# Altium footprint library Texas_Instruments.PcbLib: 113 footprints (part 5 of 8)
Each footprint in its own frame and in the unit in brackets; x right, y up, seen from the top. Pads: shape width x height; smd on the part's side, far side on the other; paste and mask are expansions set on the pad; w line width, h text height; cw(c..) or ccw(c..) is an arc to the next point about the centre after c.
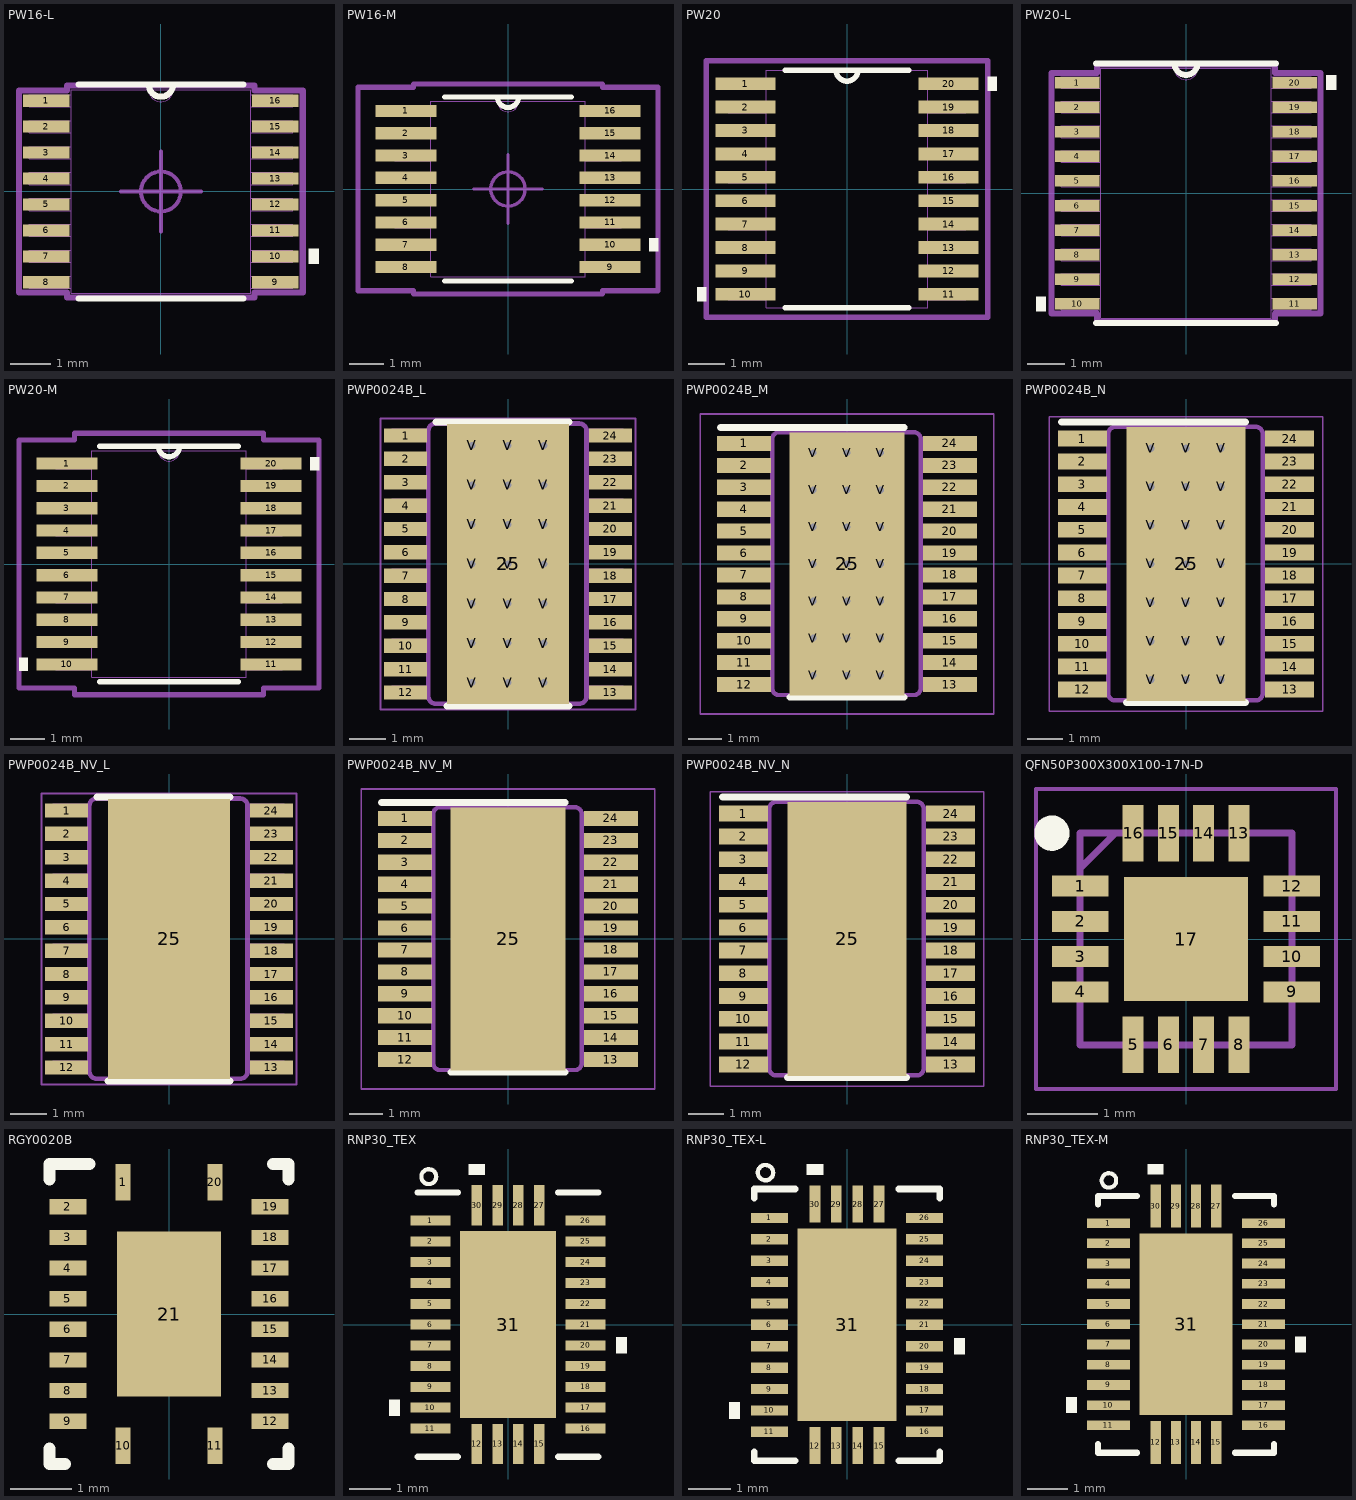
[diagram p4: the footprints below, top view; thin cyan lines are the x and y axes]

## PW16-L [mil]
pads (16):
  rect 46x12 smd: 1(-113,89.57) 2(-113,63.98) 3(-113,38.39) 4(-113,12.8) 5(-113,-12.8) 6(-113,-38.39) 7(-113,-63.98) 8(-113,-89.57) 9(113,-89.57) 10(113,-63.98) 11(113,-38.39) 12(113,-12.8) 13(113,12.8) 14(113,38.39) 15(113,63.98) 16(113,89.57)
Top Overlay:
  region: 146,-56.48 156,-56.48 156,-71.48 146,-71.48
  lines w6: -81.46,-105.5 81.46,-105.5 ; -81.46,105.5 81.46,105.5 ; -12,105.5 ccw(c0,105.5) 12,105.5
Mechanical 13:
  lines w0: -12,100.5 ccw(c0,100.5) 12,100.5
  lines w1: -130,-95.57 -88.5,-95.57 -88.5,-83.57 -130,-83.57 -130,-95.57 ; -130,-69.98 -88.5,-69.98 -88.5,-57.98 -130,-57.98 -130,-69.98 ; -130,-44.39 -88.5,-44.39 -88.5,-32.39 -130,-32.39 -130,-44.39 ; -130,-18.8 -88.5,-18.8 -88.5,-6.8 -130,-6.8 -130,-18.8 ; -130,6.8 -88.5,6.8 -88.5,18.8 -130,18.8 -130,6.8 ; -130,32.39 -88.5,32.39 -88.5,44.39 -130,44.39 -130,32.39 ; -130,57.98 -88.5,57.98 -88.5,69.98 -130,69.98 -130,57.98 ; -130,83.57 -88.5,83.57 -88.5,95.57 -130,95.57 -130,83.57 ; -88.5,-100.5 -88.5,100.5 88.5,100.5 88.5,-100.5 -88.5,-100.5 ; 88.5,-95.57 130,-95.57 130,-83.57 88.5,-83.57 88.5,-95.57 ; 88.5,-69.98 130,-69.98 130,-57.98 88.5,-57.98 88.5,-69.98 ; 88.5,-44.39 130,-44.39 130,-32.39 88.5,-32.39 88.5,-44.39 ; 88.5,-18.8 130,-18.8 130,-6.8 88.5,-6.8 88.5,-18.8 ; 88.5,6.8 130,6.8 130,18.8 88.5,18.8 88.5,6.8 ; 88.5,32.39 130,32.39 130,44.39 88.5,44.39 88.5,32.39 ; 88.5,57.98 130,57.98 130,69.98 88.5,69.98 88.5,57.98 ; 88.5,83.57 130,83.57 130,95.57 88.5,95.57 88.5,83.57
Mechanical 15:
  circle w3.94: c0,0 r19.68
  lines w3.94: -39.37,0 0,0 ; 0,-39.37 0,0 ; 0,39.37 0,0 ; 39.37,0 0,0
  lines w6: -140,-99.57 -92.5,-99.57 -92.5,-104.5 92.5,-104.5 92.5,-99.57 140,-99.57 140,99.57 92.5,99.57 92.5,104.5 -92.5,104.5 -92.5,99.57 -140,99.57 -140,-99.57
3D body "PW16.step": height 47.09, standoff 0, extent -130,-100.51 130,100.52

## PW16-M [mil]
pads (16):
  rect 70x14 smd: 1(-117,89.57) 2(-117,63.98) 3(-117,38.39) 4(-117,12.8) 5(-117,-12.8) 6(-117,-38.39) 7(-117,-63.98) 8(-117,-89.57) 9(117,-89.57) 10(117,-63.98) 11(117,-38.39) 12(117,-12.8) 13(117,12.8) 14(117,38.39) 15(117,63.98) 16(117,89.57)
Top Overlay:
  region: 162,-56.48 172,-56.48 172,-71.48 162,-71.48
  lines w6: -72.42,-105.5 72.42,-105.5 ; -72.42,105.5 72.42,105.5 ; -12,105.5 ccw(c0,105.5) 12,105.5
Mechanical 13:
  lines w0: -12,100.5 ccw(c0,100.5) 12,100.5
  lines w1: -130,-95.57 -88.5,-95.57 -88.5,-83.57 -130,-83.57 -130,-95.57 ; -130,-69.98 -88.5,-69.98 -88.5,-57.98 -130,-57.98 -130,-69.98 ; -130,-44.39 -88.5,-44.39 -88.5,-32.39 -130,-32.39 -130,-44.39 ; -130,-18.8 -88.5,-18.8 -88.5,-6.8 -130,-6.8 -130,-18.8 ; -130,6.8 -88.5,6.8 -88.5,18.8 -130,18.8 -130,6.8 ; -130,32.39 -88.5,32.39 -88.5,44.39 -130,44.39 -130,32.39 ; -130,57.98 -88.5,57.98 -88.5,69.98 -130,69.98 -130,57.98 ; -130,83.57 -88.5,83.57 -88.5,95.57 -130,95.57 -130,83.57 ; -88.5,-100.5 -88.5,100.5 88.5,100.5 88.5,-100.5 -88.5,-100.5 ; 88.5,-95.57 130,-95.57 130,-83.57 88.5,-83.57 88.5,-95.57 ; 88.5,-69.98 130,-69.98 130,-57.98 88.5,-57.98 88.5,-69.98 ; 88.5,-44.39 130,-44.39 130,-32.39 88.5,-32.39 88.5,-44.39 ; 88.5,-18.8 130,-18.8 130,-6.8 88.5,-6.8 88.5,-18.8 ; 88.5,6.8 130,6.8 130,18.8 88.5,18.8 88.5,6.8 ; 88.5,32.39 130,32.39 130,44.39 88.5,44.39 88.5,32.39 ; 88.5,57.98 130,57.98 130,69.98 88.5,69.98 88.5,57.98 ; 88.5,83.57 130,83.57 130,95.57 88.5,95.57 88.5,83.57
Mechanical 15:
  circle w3.94: c0,0 r19.68
  lines w3.94: -39.37,0 0,0 ; 0,-39.37 0,0 ; 0,39.37 0,0 ; 39.37,0 0,0
  lines w6: -172,-116.57 -108.5,-116.57 -108.5,-120.5 108.5,-120.5 108.5,-116.57 172,-116.57 172,116.57 108.5,116.57 108.5,120.5 -108.5,120.5 -108.5,116.57 -172,116.57 -172,-116.57
3D body "PW16.step": height 47.09, standoff 0, extent -130,-100.51 130,100.52

## PW20 [mil]
pads (20):
  rect 66x14 smd: 1(-111,115.16) 2(-111,89.57) 3(-111,63.98) 4(-111,38.39) 5(-111,12.8) 6(-111,-12.8) 7(-111,-38.39) 8(-111,-63.98) 9(-111,-89.57) 10(-111,-115.16) 11(111,-115.16) 12(111,-89.57) 13(111,-63.98) 14(111,-38.39) 15(111,-12.8) 16(111,12.8) 17(111,38.39) 18(111,63.98) 19(111,89.57) 20(111,115.16)
Top Overlay:
  region: 154,122.66 164,122.66 164,107.66 154,107.66
  region: -154,-107.66 -164,-107.66 -164,-122.66 -154,-122.66
  lines w6: -67.51,-130 67.51,-130 ; -67.51,130 67.51,130 ; -12,130 ccw(c0,130) 12,130
Mechanical 13:
  lines w0: -12,130 ccw(c0,130) 12,130
  lines w1: -130,-121.16 -88.5,-121.16 -88.5,-109.16 -130,-109.16 -130,-121.16 ; -130,-95.57 -88.5,-95.57 -88.5,-83.57 -130,-83.57 -130,-95.57 ; -130,-69.98 -88.5,-69.98 -88.5,-57.98 -130,-57.98 -130,-69.98 ; -130,-44.39 -88.5,-44.39 -88.5,-32.39 -130,-32.39 -130,-44.39 ; -130,-18.8 -88.5,-18.8 -88.5,-6.8 -130,-6.8 -130,-18.8 ; -130,6.8 -88.5,6.8 -88.5,18.8 -130,18.8 -130,6.8 ; -130,32.39 -88.5,32.39 -88.5,44.39 -130,44.39 -130,32.39 ; -130,57.98 -88.5,57.98 -88.5,69.98 -130,69.98 -130,57.98 ; -130,83.57 -88.5,83.57 -88.5,95.57 -130,95.57 -130,83.57 ; -130,109.16 -88.5,109.16 -88.5,121.16 -130,121.16 -130,109.16 ; -88.5,-130 -88.5,130 88.5,130 88.5,-130 -88.5,-130 ; 88.5,-121.16 130,-121.16 130,-109.16 88.5,-109.16 88.5,-121.16 ; 88.5,-95.57 130,-95.57 130,-83.57 88.5,-83.57 88.5,-95.57 ; 88.5,-69.98 130,-69.98 130,-57.98 88.5,-57.98 88.5,-69.98 ; 88.5,-44.39 130,-44.39 130,-32.39 88.5,-32.39 88.5,-44.39 ; 88.5,-18.8 130,-18.8 130,-6.8 88.5,-6.8 88.5,-18.8 ; 88.5,6.8 130,6.8 130,18.8 88.5,18.8 88.5,6.8 ; 88.5,32.39 130,32.39 130,44.39 88.5,44.39 88.5,32.39 ; 88.5,57.98 130,57.98 130,69.98 88.5,69.98 88.5,57.98 ; 88.5,83.57 130,83.57 130,95.57 88.5,95.57 88.5,83.57 ; 88.5,109.16 130,109.16 130,121.16 88.5,121.16 88.5,109.16
Mechanical 15:
  lines w6: -154,-140 154,-140 154,140 -154,140 -154,-140
3D body "PW20.step": height 47.09, standoff 0, extent -130,-130 130,130

## PW20-L [mil]
pads (20):
  rect 46x12 smd: 1(-113,115.16) 2(-113,89.57) 3(-113,63.98) 4(-113,38.39) 5(-113,12.8) 6(-113,-12.8) 7(-113,-38.39) 8(-113,-63.98) 9(-113,-89.57) 10(-113,-115.16) 11(113,-115.16) 12(113,-89.57) 13(113,-63.98) 14(113,-38.39) 15(113,-12.8) 16(113,12.8) 17(113,38.39) 18(113,63.98) 19(113,89.57) 20(113,115.16)
Top Overlay:
  region: -146,-107.66 -156,-107.66 -156,-122.66 -146,-122.66
  region: 146,122.66 156,122.66 156,107.66 146,107.66
  lines w6: -93.5,-135 93.5,-135 ; -93.5,135 93.5,135 ; -12,135 ccw(c0,135) 12,135
Mechanical 13:
  lines w0: -12,130 ccw(c0,130) 12,130
  lines w1: -130,-121.16 -130,-109.16 -88.5,-109.16 -88.5,-121.16 -130,-121.16 ; -130,-95.57 -130,-83.57 -88.5,-83.57 -88.5,-95.57 -130,-95.57 ; -130,-69.98 -130,-57.98 -88.5,-57.98 -88.5,-69.98 -130,-69.98 ; -130,-44.39 -130,-32.39 -88.5,-32.39 -88.5,-44.39 -130,-44.39 ; -130,-18.8 -130,-6.8 -88.5,-6.8 -88.5,-18.8 -130,-18.8 ; -130,6.8 -130,18.8 -88.5,18.8 -88.5,6.8 -130,6.8 ; -130,32.39 -130,44.39 -88.5,44.39 -88.5,32.39 -130,32.39 ; -130,57.98 -130,69.98 -88.5,69.98 -88.5,57.98 -130,57.98 ; -130,83.57 -130,95.57 -88.5,95.57 -88.5,83.57 -130,83.57 ; -130,109.16 -130,121.16 -88.5,121.16 -88.5,109.16 -130,109.16 ; -88.5,-130 88.5,-130 88.5,130 -88.5,130 -88.5,-130 ; 88.5,-121.16 88.5,-109.16 130,-109.16 130,-121.16 88.5,-121.16 ; 88.5,-95.57 88.5,-83.57 130,-83.57 130,-95.57 88.5,-95.57 ; 88.5,-69.98 88.5,-57.98 130,-57.98 130,-69.98 88.5,-69.98 ; 88.5,-44.39 88.5,-32.39 130,-32.39 130,-44.39 88.5,-44.39 ; 88.5,-18.8 88.5,-6.8 130,-6.8 130,-18.8 88.5,-18.8 ; 88.5,6.8 88.5,18.8 130,18.8 130,6.8 88.5,6.8 ; 88.5,32.39 88.5,44.39 130,44.39 130,32.39 88.5,32.39 ; 88.5,57.98 88.5,69.98 130,69.98 130,57.98 88.5,57.98 ; 88.5,83.57 88.5,95.57 130,95.57 130,83.57 88.5,83.57 ; 88.5,109.16 88.5,121.16 130,121.16 130,109.16 88.5,109.16
Mechanical 15:
  lines w6: -140,-125.16 -140,125.16 -92.5,125.16 -92.5,134 92.5,134 92.5,125.16 140,125.16 140,-125.16 92.5,-125.16 92.5,-134 -92.5,-134 -92.5,-125.16 -140,-125.16
3D body "PW20.step": height 47.09, standoff 0, extent -130,-130 130,130

## PW20-M [mil]
pads (20):
  rect 70x14 smd: 1(-117,115.16) 2(-117,89.57) 3(-117,63.98) 4(-117,38.39) 5(-117,12.8) 6(-117,-12.8) 7(-117,-38.39) 8(-117,-63.98) 9(-117,-89.57) 10(-117,-115.16) 11(117,-115.16) 12(117,-89.57) 13(117,-63.98) 14(117,-38.39) 15(117,-12.8) 16(117,12.8) 17(117,38.39) 18(117,63.98) 19(117,89.57) 20(117,115.16)
Top Overlay:
  region: 162,122.66 172,122.66 172,107.66 162,107.66
  region: -162,-107.66 -172,-107.66 -172,-122.66 -162,-122.66
  lines w6: -79.42,-135 79.42,-135 ; -79.42,135 79.42,135 ; -12,135 ccw(c0,135) 12,135
Mechanical 13:
  lines w0: -12,130 ccw(c0,130) 12,130
  lines w1: -130,-121.16 -88.5,-121.16 -88.5,-109.16 -130,-109.16 -130,-121.16 ; -130,-95.57 -88.5,-95.57 -88.5,-83.57 -130,-83.57 -130,-95.57 ; -130,-69.98 -88.5,-69.98 -88.5,-57.98 -130,-57.98 -130,-69.98 ; -130,-44.39 -88.5,-44.39 -88.5,-32.39 -130,-32.39 -130,-44.39 ; -130,-18.8 -88.5,-18.8 -88.5,-6.8 -130,-6.8 -130,-18.8 ; -130,6.8 -88.5,6.8 -88.5,18.8 -130,18.8 -130,6.8 ; -130,32.39 -88.5,32.39 -88.5,44.39 -130,44.39 -130,32.39 ; -130,57.98 -88.5,57.98 -88.5,69.98 -130,69.98 -130,57.98 ; -130,83.57 -88.5,83.57 -88.5,95.57 -130,95.57 -130,83.57 ; -130,109.16 -88.5,109.16 -88.5,121.16 -130,121.16 -130,109.16 ; -88.5,-130 -88.5,130 88.5,130 88.5,-130 -88.5,-130 ; 88.5,-121.16 130,-121.16 130,-109.16 88.5,-109.16 88.5,-121.16 ; 88.5,-95.57 130,-95.57 130,-83.57 88.5,-83.57 88.5,-95.57 ; 88.5,-69.98 130,-69.98 130,-57.98 88.5,-57.98 88.5,-69.98 ; 88.5,-44.39 130,-44.39 130,-32.39 88.5,-32.39 88.5,-44.39 ; 88.5,-18.8 130,-18.8 130,-6.8 88.5,-6.8 88.5,-18.8 ; 88.5,6.8 130,6.8 130,18.8 88.5,18.8 88.5,6.8 ; 88.5,32.39 130,32.39 130,44.39 88.5,44.39 88.5,32.39 ; 88.5,57.98 130,57.98 130,69.98 88.5,69.98 88.5,57.98 ; 88.5,83.57 130,83.57 130,95.57 88.5,95.57 88.5,83.57 ; 88.5,109.16 130,109.16 130,121.16 88.5,121.16 88.5,109.16
Mechanical 15:
  lines w6: -172,-142.16 -108.5,-142.16 -108.5,-150 108.5,-150 108.5,-142.16 172,-142.16 172,142.16 108.5,142.16 108.5,150 -108.5,150 -108.5,142.16 -172,142.16 -172,-142.16
3D body "PW20.step": height 47.09, standoff 0, extent -130,-130 130,130

## PWP0024B_L [mm]
pads (46):
  rect 1.2x0.4 smd paste+0 mask+0.051: 1(-2.85,3.575) 2(-2.85,2.925) 3(-2.85,2.275) 4(-2.85,1.625) 5(-2.85,0.975) 6(-2.85,0.325) 7(-2.85,-0.325) 8(-2.85,-0.975) 9(-2.85,-1.625) 10(-2.85,-2.275) 11(-2.85,-2.925) 12(-2.85,-3.575) 13(2.85,-3.575) 14(2.85,-2.925) 15(2.85,-2.275) 16(2.85,-1.625) 17(2.85,-0.975) 18(2.85,-0.325) 19(2.85,0.325) 20(2.85,0.975) 21(2.85,1.625) 22(2.85,2.275) 23(2.85,2.925) 24(2.85,3.575)
  rect 3.4x7.8 smd paste-3.887 mask-3.886: 25(0,0)
  round 0.5 hole 0.203 mask+0.051: V(-1,-3.3) V(-1,3.3) V(0,-3.3) V(0,-2.2) V(0,-1.1) V(0,0) V(0,1.1) V(0,2.2) V(0,3.3) V(1,-3.3) V(1,3.3)
  round 0.5 hole 0.203 mask-0.102: V(-1,-2.2) V(-1,-1.1) V(-1,0) V(-1,1.1) V(-1,2.2) V(1,-2.2) V(1,-1.1) V(1,0) V(1,1.1) V(1,2.2)
Top Overlay:
  lines w0.2: -2,3.95 1.7,3.95 ; -1.7,-3.95 1.7,-3.95
Top Paste:
  region: -1.199,-2.541 -1.2,-2.532 -1.2,2.532 -1.199,2.541 -1.196,2.55 -1.192,2.559 -1.186,2.566 -1.179,2.572 -1.17,2.576 -1.161,2.579 -1.152,2.58 1.152,2.58 1.161,2.579 1.17,2.576 1.179,2.572 1.186,2.566 1.192,2.559 1.196,2.55 1.199,2.541 1.2,2.532 1.2,-2.532 1.199,-2.541 1.196,-2.55 1.192,-2.559 1.186,-2.566 1.179,-2.572 1.17,-2.576 1.161,-2.579 1.152,-2.58 -1.152,-2.58 -1.161,-2.579 -1.17,-2.576 -1.179,-2.572 -1.186,-2.566 -1.192,-2.559 -1.196,-2.55
Top Solder:
  region: -1.199,-2.541 -1.2,-2.532 -1.2,2.532 -1.199,2.541 -1.196,2.55 -1.192,2.559 -1.186,2.566 -1.179,2.572 -1.17,2.576 -1.161,2.579 -1.152,2.58 1.152,2.58 1.161,2.579 1.17,2.576 1.179,2.572 1.186,2.566 1.192,2.559 1.196,2.55 1.199,2.541 1.2,2.532 1.2,-2.532 1.199,-2.541 1.196,-2.55 1.192,-2.559 1.186,-2.566 1.179,-2.572 1.17,-2.576 1.161,-2.579 1.152,-2.58 -1.152,-2.58 -1.161,-2.579 -1.17,-2.576 -1.179,-2.572 -1.186,-2.566 -1.192,-2.559 -1.196,-2.55
Mechanical 13:
  drawing of 298 lines, arcs and shapes, not listed
Mechanical 15:
  lines w0.05: -3.55,-4.05 -3.55,4.05 3.55,4.05 3.55,-4.05 -3.55,-4.05
  lines w0.1: -0.5,0 0.5,0 ; 0,-0.5 0,0.5
3D body: height 0.25, standoff 0, extent 0,0 0.254,0.254
3D body "PWP0024B.stp": height 1, standoff 0, extent -3.21,-3.9 3.211,3.9

## PWP0024B_M [mm]
pads (46):
  rect 1.6x0.45 smd paste+0 mask+0.051: 1(-3.05,3.575) 2(-3.05,2.925) 3(-3.05,2.275) 4(-3.05,1.625) 5(-3.05,0.975) 6(-3.05,0.325) 7(-3.05,-0.325) 8(-3.05,-0.975) 9(-3.05,-1.625) 10(-3.05,-2.275) 11(-3.05,-2.925) 12(-3.05,-3.575) 13(3.05,-3.575) 14(3.05,-2.925) 15(3.05,-2.275) 16(3.05,-1.625) 17(3.05,-0.975) 18(3.05,-0.325) 19(3.05,0.325) 20(3.05,0.975) 21(3.05,1.625) 22(3.05,2.275) 23(3.05,2.925) 24(3.05,3.575)
  rect 3.4x7.8 smd paste-3.887 mask-3.886: 25(0,0)
  round 0.5 hole 0.203 mask+0.051: V(-1,-3.3) V(-1,3.3) V(0,-3.3) V(0,-2.2) V(0,-1.1) V(0,0) V(0,1.1) V(0,2.2) V(0,3.3) V(1,-3.3) V(1,3.3)
  round 0.5 hole 0.203 mask-0.102: V(-1,-2.2) V(-1,-1.1) V(-1,0) V(-1,1.1) V(-1,2.2) V(1,-2.2) V(1,-1.1) V(1,0) V(1,1.1) V(1,2.2)
Top Overlay:
  lines w0.2: -3.75,4.05 1.7,4.05 ; -1.7,-3.95 1.7,-3.95
Top Paste:
  region: -1.199,-2.541 -1.2,-2.532 -1.2,2.532 -1.199,2.541 -1.196,2.55 -1.192,2.559 -1.186,2.566 -1.179,2.572 -1.17,2.576 -1.161,2.579 -1.152,2.58 1.152,2.58 1.161,2.579 1.17,2.576 1.179,2.572 1.186,2.566 1.192,2.559 1.196,2.55 1.199,2.541 1.2,2.532 1.2,-2.532 1.199,-2.541 1.196,-2.55 1.192,-2.559 1.186,-2.566 1.179,-2.572 1.17,-2.576 1.161,-2.579 1.152,-2.58 -1.152,-2.58 -1.161,-2.579 -1.17,-2.576 -1.179,-2.572 -1.186,-2.566 -1.192,-2.559 -1.196,-2.55
Top Solder:
  region: -1.199,-2.541 -1.2,-2.532 -1.2,2.532 -1.199,2.541 -1.196,2.55 -1.192,2.559 -1.186,2.566 -1.179,2.572 -1.17,2.576 -1.161,2.579 -1.152,2.58 1.152,2.58 1.161,2.579 1.17,2.576 1.179,2.572 1.186,2.566 1.192,2.559 1.196,2.55 1.199,2.541 1.2,2.532 1.2,-2.532 1.199,-2.541 1.196,-2.55 1.192,-2.559 1.186,-2.566 1.179,-2.572 1.17,-2.576 1.161,-2.579 1.152,-2.58 -1.152,-2.58 -1.161,-2.579 -1.17,-2.576 -1.179,-2.572 -1.186,-2.566 -1.192,-2.559 -1.196,-2.55
Mechanical 13:
  drawing of 298 lines, arcs and shapes, not listed
Mechanical 15:
  lines w0.05: -4.35,-4.45 -4.35,4.45 4.35,4.45 4.35,-4.45 -4.35,-4.45
  lines w0.1: -0.5,0 0.5,0 ; 0,-0.5 0,0.5
3D body: height 0.25, standoff 0, extent 0,0 0.254,0.254
3D body "PWP0024B.stp": height 1, standoff 0, extent -3.21,-3.9 3.211,3.9

## PWP0024B_N [mm]
pads (46):
  rect 1.4x0.45 smd paste+0 mask+0.051: 1(-2.95,3.575) 2(-2.95,2.925) 3(-2.95,2.275) 4(-2.95,1.625) 5(-2.95,0.975) 6(-2.95,0.325) 7(-2.95,-0.325) 8(-2.95,-0.975) 9(-2.95,-1.625) 10(-2.95,-2.275) 11(-2.95,-2.925) 12(-2.95,-3.575) 13(2.95,-3.575) 14(2.95,-2.925) 15(2.95,-2.275) 16(2.95,-1.625) 17(2.95,-0.975) 18(2.95,-0.325) 19(2.95,0.325) 20(2.95,0.975) 21(2.95,1.625) 22(2.95,2.275) 23(2.95,2.925) 24(2.95,3.575)
  rect 3.4x7.8 smd paste-3.887 mask-3.886: 25(0,0)
  round 0.5 hole 0.203 mask+0.051: V(-1,-3.3) V(-1,3.3) V(0,-3.3) V(0,-2.2) V(0,-1.1) V(0,0) V(0,1.1) V(0,2.2) V(0,3.3) V(1,-3.3) V(1,3.3)
  round 0.5 hole 0.203 mask-0.102: V(-1,-2.2) V(-1,-1.1) V(-1,0) V(-1,1.1) V(-1,2.2) V(1,-2.2) V(1,-1.1) V(1,0) V(1,1.1) V(1,2.2)
Top Overlay:
  lines w0.2: -3.55,4.05 1.7,4.05 ; -1.7,-3.95 1.7,-3.95
Top Paste:
  region: -1.199,-2.541 -1.2,-2.532 -1.2,2.532 -1.199,2.541 -1.196,2.55 -1.192,2.559 -1.186,2.566 -1.179,2.572 -1.17,2.576 -1.161,2.579 -1.152,2.58 1.152,2.58 1.161,2.579 1.17,2.576 1.179,2.572 1.186,2.566 1.192,2.559 1.196,2.55 1.199,2.541 1.2,2.532 1.2,-2.532 1.199,-2.541 1.196,-2.55 1.192,-2.559 1.186,-2.566 1.179,-2.572 1.17,-2.576 1.161,-2.579 1.152,-2.58 -1.152,-2.58 -1.161,-2.579 -1.17,-2.576 -1.179,-2.572 -1.186,-2.566 -1.192,-2.559 -1.196,-2.55
Top Solder:
  region: -1.199,-2.541 -1.2,-2.532 -1.2,2.532 -1.199,2.541 -1.196,2.55 -1.192,2.559 -1.186,2.566 -1.179,2.572 -1.17,2.576 -1.161,2.579 -1.152,2.58 1.152,2.58 1.161,2.579 1.17,2.576 1.179,2.572 1.186,2.566 1.192,2.559 1.196,2.55 1.199,2.541 1.2,2.532 1.2,-2.532 1.199,-2.541 1.196,-2.55 1.192,-2.559 1.186,-2.566 1.179,-2.572 1.17,-2.576 1.161,-2.579 1.152,-2.58 -1.152,-2.58 -1.161,-2.579 -1.17,-2.576 -1.179,-2.572 -1.186,-2.566 -1.192,-2.559 -1.196,-2.55
Mechanical 13:
  drawing of 298 lines, arcs and shapes, not listed
Mechanical 15:
  lines w0.05: -3.9,-4.2 -3.9,4.2 3.9,4.2 3.9,-4.2 -3.9,-4.2
  lines w0.1: -0.5,0 0.5,0 ; 0,-0.5 0,0.5
3D body: height 0.25, standoff 0, extent 0,0 0.254,0.254
3D body "PWP0024B.stp": height 1, standoff 0, extent -3.21,-3.9 3.211,3.9

## PWP0024B_NV_L [mm]
pads (25):
  rect 1.2x0.4 smd paste+0 mask+0.051: 1(-2.85,3.575) 2(-2.85,2.925) 3(-2.85,2.275) 4(-2.85,1.625) 5(-2.85,0.975) 6(-2.85,0.325) 7(-2.85,-0.325) 8(-2.85,-0.975) 9(-2.85,-1.625) 10(-2.85,-2.275) 11(-2.85,-2.925) 12(-2.85,-3.575) 13(2.85,-3.575) 14(2.85,-2.925) 15(2.85,-2.275) 16(2.85,-1.625) 17(2.85,-0.975) 18(2.85,-0.325) 19(2.85,0.325) 20(2.85,0.975) 21(2.85,1.625) 22(2.85,2.275) 23(2.85,2.925) 24(2.85,3.575)
  rect 3.4x7.8 smd paste-3.887 mask-3.886: 25(0,0)
Top Overlay:
  lines w0.2: -2,3.95 1.7,3.95 ; -1.7,-3.95 1.7,-3.95
Top Paste:
  region: -1.199,-2.541 -1.2,-2.532 -1.2,2.532 -1.199,2.541 -1.196,2.55 -1.192,2.559 -1.186,2.566 -1.179,2.572 -1.17,2.576 -1.161,2.579 -1.152,2.58 1.152,2.58 1.161,2.579 1.17,2.576 1.179,2.572 1.186,2.566 1.192,2.559 1.196,2.55 1.199,2.541 1.2,2.532 1.2,-2.532 1.199,-2.541 1.196,-2.55 1.192,-2.559 1.186,-2.566 1.179,-2.572 1.17,-2.576 1.161,-2.579 1.152,-2.58 -1.152,-2.58 -1.161,-2.579 -1.17,-2.576 -1.179,-2.572 -1.186,-2.566 -1.192,-2.559 -1.196,-2.55
Top Solder:
  region: -1.199,-2.541 -1.2,-2.532 -1.2,2.532 -1.199,2.541 -1.196,2.55 -1.192,2.559 -1.186,2.566 -1.179,2.572 -1.17,2.576 -1.161,2.579 -1.152,2.58 1.152,2.58 1.161,2.579 1.17,2.576 1.179,2.572 1.186,2.566 1.192,2.559 1.196,2.55 1.199,2.541 1.2,2.532 1.2,-2.532 1.199,-2.541 1.196,-2.55 1.192,-2.559 1.186,-2.566 1.179,-2.572 1.17,-2.576 1.161,-2.579 1.152,-2.58 -1.152,-2.58 -1.161,-2.579 -1.17,-2.576 -1.179,-2.572 -1.186,-2.566 -1.192,-2.559 -1.196,-2.55
Mechanical 13:
  drawing of 298 lines, arcs and shapes, not listed
Mechanical 15:
  lines w0.05: -3.55,-4.05 -3.55,4.05 3.55,4.05 3.55,-4.05 -3.55,-4.05
  lines w0.1: -0.5,0 0.5,0 ; 0,-0.5 0,0.5
3D body: height 0.25, standoff 0, extent 0,0 0.254,0.254
3D body "PWP0024B.stp": height 1, standoff 0, extent -3.21,-3.9 3.211,3.9

## PWP0024B_NV_M [mm]
pads (25):
  rect 1.6x0.45 smd paste+0 mask+0.051: 1(-3.05,3.575) 2(-3.05,2.925) 3(-3.05,2.275) 4(-3.05,1.625) 5(-3.05,0.975) 6(-3.05,0.325) 7(-3.05,-0.325) 8(-3.05,-0.975) 9(-3.05,-1.625) 10(-3.05,-2.275) 11(-3.05,-2.925) 12(-3.05,-3.575) 13(3.05,-3.575) 14(3.05,-2.925) 15(3.05,-2.275) 16(3.05,-1.625) 17(3.05,-0.975) 18(3.05,-0.325) 19(3.05,0.325) 20(3.05,0.975) 21(3.05,1.625) 22(3.05,2.275) 23(3.05,2.925) 24(3.05,3.575)
  rect 3.4x7.8 smd paste-3.887 mask-3.886: 25(0,0)
Top Overlay:
  lines w0.2: -3.75,4.05 1.7,4.05 ; -1.7,-3.95 1.7,-3.95
Top Paste:
  region: -1.199,-2.541 -1.2,-2.532 -1.2,2.532 -1.199,2.541 -1.196,2.55 -1.192,2.559 -1.186,2.566 -1.179,2.572 -1.17,2.576 -1.161,2.579 -1.152,2.58 1.152,2.58 1.161,2.579 1.17,2.576 1.179,2.572 1.186,2.566 1.192,2.559 1.196,2.55 1.199,2.541 1.2,2.532 1.2,-2.532 1.199,-2.541 1.196,-2.55 1.192,-2.559 1.186,-2.566 1.179,-2.572 1.17,-2.576 1.161,-2.579 1.152,-2.58 -1.152,-2.58 -1.161,-2.579 -1.17,-2.576 -1.179,-2.572 -1.186,-2.566 -1.192,-2.559 -1.196,-2.55
Top Solder:
  region: -1.199,-2.541 -1.2,-2.532 -1.2,2.532 -1.199,2.541 -1.196,2.55 -1.192,2.559 -1.186,2.566 -1.179,2.572 -1.17,2.576 -1.161,2.579 -1.152,2.58 1.152,2.58 1.161,2.579 1.17,2.576 1.179,2.572 1.186,2.566 1.192,2.559 1.196,2.55 1.199,2.541 1.2,2.532 1.2,-2.532 1.199,-2.541 1.196,-2.55 1.192,-2.559 1.186,-2.566 1.179,-2.572 1.17,-2.576 1.161,-2.579 1.152,-2.58 -1.152,-2.58 -1.161,-2.579 -1.17,-2.576 -1.179,-2.572 -1.186,-2.566 -1.192,-2.559 -1.196,-2.55
Mechanical 13:
  drawing of 298 lines, arcs and shapes, not listed
Mechanical 15:
  lines w0.05: -4.35,-4.45 4.35,-4.45 4.35,4.45 -4.35,4.45 -4.35,-4.45
  lines w0.1: -0.5,0 0.5,0 ; 0,-0.5 0,0.5
3D body: height 0.25, standoff 0, extent 0,0 0.254,0.254
3D body "PWP0024B.stp": height 1, standoff 0, extent -3.21,-3.9 3.211,3.9

## PWP0024B_NV_N [mm]
pads (25):
  rect 1.4x0.45 smd paste+0 mask+0.051: 1(-2.95,3.575) 2(-2.95,2.925) 3(-2.95,2.275) 4(-2.95,1.625) 5(-2.95,0.975) 6(-2.95,0.325) 7(-2.95,-0.325) 8(-2.95,-0.975) 9(-2.95,-1.625) 10(-2.95,-2.275) 11(-2.95,-2.925) 12(-2.95,-3.575) 13(2.95,-3.575) 14(2.95,-2.925) 15(2.95,-2.275) 16(2.95,-1.625) 17(2.95,-0.975) 18(2.95,-0.325) 19(2.95,0.325) 20(2.95,0.975) 21(2.95,1.625) 22(2.95,2.275) 23(2.95,2.925) 24(2.95,3.575)
  rect 3.4x7.8 smd paste-3.887 mask-3.886: 25(0,0)
Top Overlay:
  lines w0.2: -3.55,4.05 1.7,4.05 ; -1.7,-3.95 1.7,-3.95
Top Paste:
  region: -1.199,-2.541 -1.2,-2.532 -1.2,2.532 -1.199,2.541 -1.196,2.55 -1.192,2.559 -1.186,2.566 -1.179,2.572 -1.17,2.576 -1.161,2.579 -1.152,2.58 1.152,2.58 1.161,2.579 1.17,2.576 1.179,2.572 1.186,2.566 1.192,2.559 1.196,2.55 1.199,2.541 1.2,2.532 1.2,-2.532 1.199,-2.541 1.196,-2.55 1.192,-2.559 1.186,-2.566 1.179,-2.572 1.17,-2.576 1.161,-2.579 1.152,-2.58 -1.152,-2.58 -1.161,-2.579 -1.17,-2.576 -1.179,-2.572 -1.186,-2.566 -1.192,-2.559 -1.196,-2.55
Top Solder:
  region: -1.199,-2.541 -1.2,-2.532 -1.2,2.532 -1.199,2.541 -1.196,2.55 -1.192,2.559 -1.186,2.566 -1.179,2.572 -1.17,2.576 -1.161,2.579 -1.152,2.58 1.152,2.58 1.161,2.579 1.17,2.576 1.179,2.572 1.186,2.566 1.192,2.559 1.196,2.55 1.199,2.541 1.2,2.532 1.2,-2.532 1.199,-2.541 1.196,-2.55 1.192,-2.559 1.186,-2.566 1.179,-2.572 1.17,-2.576 1.161,-2.579 1.152,-2.58 -1.152,-2.58 -1.161,-2.579 -1.17,-2.576 -1.179,-2.572 -1.186,-2.566 -1.192,-2.559 -1.196,-2.55
Mechanical 13:
  drawing of 298 lines, arcs and shapes, not listed
Mechanical 15:
  lines w0.05: -3.9,-4.2 3.9,-4.2 3.9,4.2 -3.9,4.2 -3.9,-4.2
  lines w0.1: -0.5,0 0.5,0 ; 0,-0.5 0,0.5
3D body: height 0.25, standoff 0, extent 0,0 0.254,0.254
3D body "PWP0024B.stp": height 1, standoff 0, extent -3.21,-3.9 3.211,3.9

## QFN50P300X300X100-17N-D [mm]
pads (17):
  rect 0.8x0.3 smd: 1(-1.5,0.75) 2(-1.5,0.25) 3(-1.5,-0.25) 4(-1.5,-0.75) 9(1.5,-0.75) 10(1.5,-0.25) 11(1.5,0.25) 12(1.5,0.75)
  rect 0.3x0.8 smd: 5(-0.75,-1.5) 6(-0.25,-1.5) 7(0.25,-1.5) 8(0.75,-1.5) 13(0.75,1.5) 14(0.25,1.5) 15(-0.25,1.5) 16(-0.75,1.5)
  rect 1.75x1.75 smd: 17(0,0)
Top Overlay:
  circle w0.25: c-1.9,1.5 r0.125
Mechanical 13:
  lines w0.1: -1.5,1 -1,1.5 ; -1.5,-1.5 -1.5,1.5 1.5,1.5 1.5,-1.5 -1.5,-1.5
Mechanical 15:
  lines w0.05: -2.125,-2.125 -2.125,2.125 2.125,2.125 2.125,-2.125 -2.125,-2.125
3D body "THVD1424RGTR.stp": height 1, standoff 0, extent -1.5,-1.5 1.5,1.5

## RGY0020B [mm]
pads (21):
  rect 0.25x0.6 smd paste+0 mask+0.051: 1(-0.75,2.15) 10(-0.75,-2.15) 11(0.75,-2.15) 20(0.75,2.15)
  rect 0.6x0.25 smd paste+0 mask+0.051: 2(-1.65,1.75) 3(-1.65,1.25) 4(-1.65,0.75) 5(-1.65,0.25) 6(-1.65,-0.25) 7(-1.65,-0.75) 8(-1.65,-1.25) 9(-1.65,-1.75) 12(1.65,-1.75) 13(1.65,-1.25) 14(1.65,-0.75) 15(1.65,-0.25) 16(1.65,0.25) 17(1.65,0.75) 18(1.65,1.25) 19(1.65,1.75)
  rect 1.7x2.7 smd paste-1.337 mask+0.051: 21(0,0)
Top Overlay:
  lines w0.2: -1.95,-2.2 -1.95,-2.45 -1.7,-2.45 ; -1.95,2.2 -1.95,2.45 -1.3,2.45 ; 1.7,-2.45 1.95,-2.45 1.95,-2.2 ; 1.7,2.45 1.95,2.45 1.95,2.2
Top Paste:
  region: 0.774,0.1 0.774,1.288 -0.774,1.288 -0.774,0.1
  region: 0.774,-1.288 0.774,-0.1 -0.774,-0.1 -0.774,-1.288

## RNP30_TEX [mil]
pads (31):
  rect 38x9.45 smd: 1(-73.5,98.43) 2(-73.5,78.74) 3(-73.5,59.06) 4(-73.5,39.37) 5(-73.5,19.68) 6(-73.5,0) 7(-73.5,-19.68) 8(-73.5,-39.37) 9(-73.5,-59.06) 10(-73.5,-78.74) 11(-73.5,-98.43) 16(73.5,-98.43) 17(73.5,-78.74) 18(73.5,-59.06) 19(73.5,-39.37) 20(73.5,-19.68) 21(73.5,0) 22(73.5,19.68) 23(73.5,39.37) 24(73.5,59.06) 25(73.5,78.74) 26(73.5,98.43)
  rect 10x38 smd: 12(-29.53,-113) 13(-9.84,-113) 14(9.84,-113) 15(29.53,-113) 27(29.53,113) 28(9.84,113) 29(-9.84,113) 30(-29.53,113)
  rect 91x177 smd: 31(0,0)
Top Overlay:
  circle w3.94: c-75,140 r7.07
  region: -22.03,142 -37.03,142 -37.03,152 -22.03,152
  region: 102.5,-12.19 112.5,-12.19 112.5,-27.18 102.5,-27.18
  region: -102.5,-71.24 -112.5,-71.24 -112.5,-86.24 -102.5,-86.24
  lines w6: -85.5,-125 -47.63,-125 ; -85.5,125 -47.63,125 ; 47.63,-125 85.5,-125 ; 47.63,125 85.5,125
Top Paste:
  region: 41.56,-33.44 -41.56,-33.44 -41.56,-84.56 41.56,-84.56
  region: 41.56,25.56 -41.56,25.56 -41.56,-25.56 41.56,-25.56
  region: 41.56,84.56 -41.56,84.56 -41.56,33.44 41.56,33.44
Mechanical 15:
  circle w3.94: c0,0 r15.75
  lines w3.94: -39.37,0 0,0 ; 0,-39.37 0,0 ; 0,39.37 0,0 ; 39.37,0 0,0
3D body: height 10, standoff 0, extent 0,0 10,10
3D body "RNP0030A.stp": height 30.51, standoff -0.98, extent -78.74,-118.11 78.74,118.11

## RNP30_TEX-L [mil]
pads (31):
  rect 34x9.45 smd: 1(-71.5,98.43) 2(-71.5,78.74) 3(-71.5,59.06) 4(-71.5,39.37) 5(-71.5,19.68) 6(-71.5,0) 7(-71.5,-19.68) 8(-71.5,-39.37) 9(-71.5,-59.06) 10(-71.5,-78.74) 11(-71.5,-98.43) 16(71.5,-98.43) 17(71.5,-78.74) 18(71.5,-59.06) 19(71.5,-39.37) 20(71.5,-19.68) 21(71.5,0) 22(71.5,19.68) 23(71.5,39.37) 24(71.5,59.06) 25(71.5,78.74) 26(71.5,98.43)
  rect 10x34 smd: 12(-29.53,-111) 13(-9.84,-111) 14(9.84,-111) 15(29.53,-111) 27(29.53,111) 28(9.84,111) 29(-9.84,111) 30(-29.53,111)
  rect 91x177 smd: 31(0,0)
Top Overlay:
  circle w3.94: c-75,140 r7.07
  region: -98.5,-71.24 -108.5,-71.24 -108.5,-86.24 -98.5,-86.24
  region: 98.5,-12.19 108.5,-12.19 108.5,-27.18 98.5,-27.18
  region: -22.03,138 -37.03,138 -37.03,148 -22.03,148
  lines w6: -85.5,-116.53 -85.5,-125 -47.63,-125 ; -85.5,116.53 -85.5,125 -47.63,125 ; 47.63,-125 85.5,-125 85.5,-116.53 ; 47.63,125 85.5,125 85.5,116.53
Top Paste:
  region: 41.56,84.56 -41.56,84.56 -41.56,33.44 41.56,33.44
  region: 41.56,25.56 -41.56,25.56 -41.56,-25.56 41.56,-25.56
  region: 41.56,-33.44 -41.56,-33.44 -41.56,-84.56 41.56,-84.56
Mechanical 15:
  circle w3.94: c0,0 r15.75
  lines w3.94: -39.37,0 0,0 ; 0,-39.37 0,0 ; 0,39.37 0,0 ; 39.37,0 0,0
3D body: height 10, standoff 0, extent 0,0 10,10
3D body "RNP0030A.stp": height 30.51, standoff -0.98, extent -78.74,-118.11 78.74,118.11

## RNP30_TEX-M [mil]
pads (31):
  rect 42x9.45 smd: 1(-75.5,98.43) 2(-75.5,78.74) 3(-75.5,59.06) 4(-75.5,39.37) 5(-75.5,19.68) 6(-75.5,0) 7(-75.5,-19.68) 8(-75.5,-39.37) 9(-75.5,-59.06) 10(-75.5,-78.74) 11(-75.5,-98.43) 16(75.5,-98.43) 17(75.5,-78.74) 18(75.5,-59.06) 19(75.5,-39.37) 20(75.5,-19.68) 21(75.5,0) 22(75.5,19.68) 23(75.5,39.37) 24(75.5,59.06) 25(75.5,78.74) 26(75.5,98.43)
  rect 10x42 smd: 12(-29.53,-115) 13(-9.84,-115) 14(9.84,-115) 15(29.53,-115) 27(29.53,115) 28(9.84,115) 29(-9.84,115) 30(-29.53,115)
  rect 91x177 smd: 31(0,0)
Top Overlay:
  circle w3.94: c-75,140 r7.07
  region: -106.5,-71.24 -116.5,-71.24 -116.5,-86.24 -106.5,-86.24
  region: 106.5,-12.19 116.5,-12.19 116.5,-27.18 106.5,-27.18
  region: -22.03,146 -37.03,146 -37.03,156 -22.03,156
  lines w6: -85.5,-116.53 -85.5,-125 -47.63,-125 ; -85.5,116.53 -85.5,125 -47.63,125 ; 47.63,-125 85.5,-125 85.5,-116.53 ; 47.63,125 85.5,125 85.5,116.53
Top Paste:
  region: 41.56,84.56 -41.56,84.56 -41.56,33.44 41.56,33.44
  region: 41.56,25.56 -41.56,25.56 -41.56,-25.56 41.56,-25.56
  region: 41.56,-33.44 -41.56,-33.44 -41.56,-84.56 41.56,-84.56
Mechanical 15:
  circle w3.94: c0,0 r15.75
  lines w3.94: -39.37,0 0,0 ; 0,-39.37 0,0 ; 0,39.37 0,0 ; 39.37,0 0,0
3D body "RNP0030A.stp": height 30.51, standoff -0.98, extent -78.74,-118.11 78.74,118.11
3D body: height 10, standoff 0, extent 0,0 10,10